# Altium integrated library KSZ8091MNXCA.IntLib: 1 symbol
Pins are listed as number, name and electrical type; pins without a type are passive.

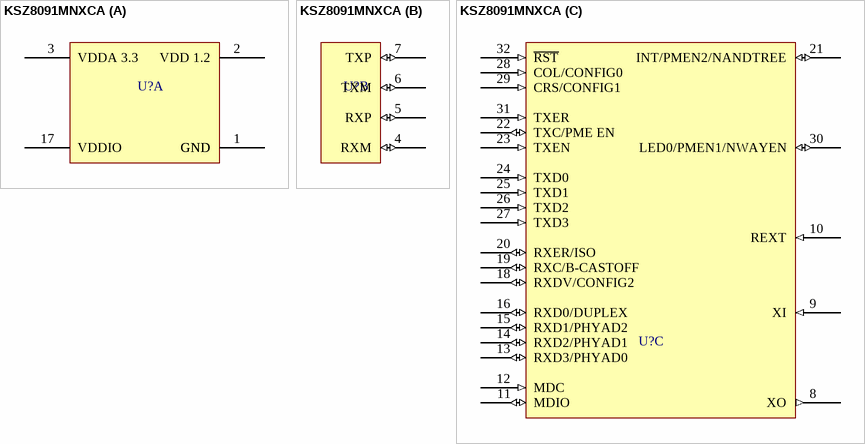
[diagram p0: symbol KSZ8091MNXCA]

## KSZ8091MNXCA
designator U?
footprint KSZ8091MNXCA (QFN, 32-Leads, Body 5.00x5.00mm, Pitch 0.50mm, Thermal Pad 3.10x3.10mm, IPC Medium Density)
part A pins: 1 GND (power), 2 VDD 1.2 (power), 3 VDDA 3.3 (power), 17 VDDIO (power), 33 GND (power)
part B pins: 4 RXM (io), 5 RXP (io), 6 TXM (io), 7 TXP (io)
part C pins: 8 XO (out), 9 XI (in), 10 REXT (in), 11 MDIO (io), 12 MDC (in), 13 RXD3/PHYAD0 (io), 14 RXD2/PHYAD1 (io), 15 RXD1/PHYAD2 (io), 16 RXD0/DUPLEX (io), 18 RXDV/CONFIG2 (io), 19 RXC/B-CASTOFF (io), 20 RXER/ISO (io), 21 INT/PMEN2/NANDTREE (io), 22 TXC/PME EN (io), 23 TXEN (in), 24 TXD0 (in), 25 TXD1 (in), 26 TXD2 (in), 27 TXD3 (in), 28 COL/CONFIG0 (in), 29 CRS/CONFIG1 (in), 30 LED0/PMEN1/NWAYEN (io), 31 TXER (in), 32 ~{RST} (in)